# Altium schematic symbol library SINGLE pin.SchLib: 1 symbol
Pins are listed as number, name and electrical type; pins without a type are passive.

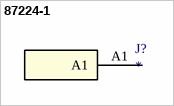
[diagram p0: symbol 87224-1]

## 87224-1
designator J?
Imported; Manufacturer Part Number: 87224-1; Vendor: TE Connectivity; Built_By: EMA_UL_Team; C: Copyright (C) 2015 Accelerated Designs. All rights reserved; RefDes: RefDes; Type: DEV; Value: Value
footprint 87224-1; pin to pad A1>1
footprint 87224-1
pins: A1